# Altium schematic symbol library power_charger.SchLib: 5 symbols
Pins are listed as number, name and electrical type; pins without a type are passive.

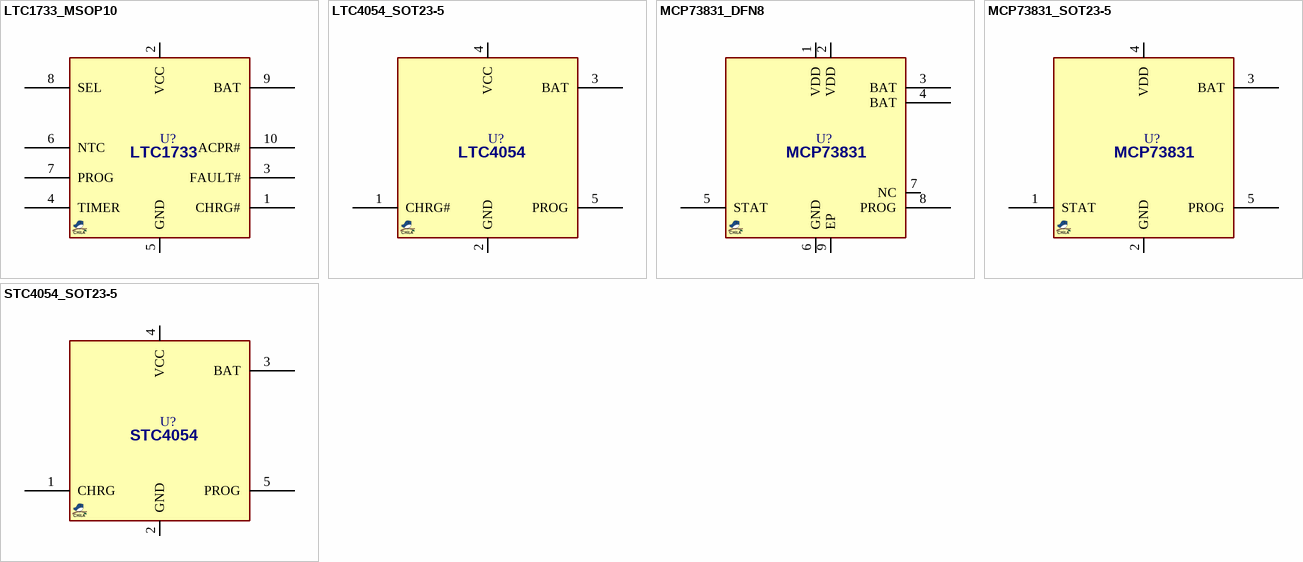
[diagram p0: symbols LTC1733_MSOP10 to STC4054_SOT23-5]

## LTC1733_MSOP10
designator U?, comment LTC1733  (value not drawn)
PWR, CHARGER, Linear, Li-Ion, 1.6A, 4.2v; MANF: ANALOG DEVICE/LINEAR; MANF_P#: LTC1733EMSE; PARAM2: 4.5~6.5Vcc, -40~85oC; PARAM: Li-Ion, 1.6A, 4.2v; PRICE: 7t@ECA; VALUE: LTC1733
footprint SOG50_10 (MSSOP10, 3X3mm 0.5mm pitch, DGS, MSOP10, 10uSOP/usop10 (Dallas), MO-187BA(JEDEC))
pins: 1 CHRG# (power), 2 VCC (power), 3 FAULT# (power), 4 TIMER (power), 5 GND (power), 6 NTC (power), 7 PROG (power), 8 SEL (power), 9 BAT (power), 10 ACPR# (power)

## LTC4054_SOT23-5
designator U?, comment LTC4054  (value not drawn)
PWR, CHARGER, Linear, Li-Ion, 0.8A, 4.2v; MANF: ANALOG DEVICE/LINEAR; MANF_P#: LTC4054ES5-4.2; PARAM2: 4.2~6.5Vcc, -40~85oC; PARAM: Li-Ion, 0.8A, 4.2v; PRICE: 5t@JAVAN; VALUE: LTC4054
footprint SOT23_5 (SOT-23-5, SOT25, SOT-25, DBV(R-PDSO-G5), SOT753, TSOT23-5, SC-74A, SOT23-5, S5-T (LINEAR), MO-178AA, MO-193AB(JEDEC), MF05A (NS), TSOP-5(ON), UJ-5 (AD), 0.95mm pitch 3X1.5mm)
pins: 1 CHRG# (power), 2 GND (power), 3 BAT (power), 4 VCC (power), 5 PROG (power)

## MCP73831_DFN8
designator U?, comment MCP73831  (value not drawn)
PWR, CHARGER, Linear, Li-Ion/Li-Po, 0.5A, 4.2v; MANF: MICROCHIP; MANF_P#: MCP73831T-2ACI/MC; PARAM2: 3.75~6Vcc, -40~85oC; PARAM: Li-Ion/Li-Po, 0.5A, 4.2v; PRICE: 0.6$@MOUSER; VALUE: MCP73831
footprint SON50_8T_2X3 (TDFN, UFDFPN8, Pitch: 0.5mm 2x3x0.8mm with Thermal pad)
pins: 1 VDD (power), 2 VDD (power), 3 BAT (power), 4 BAT (power), 5 STAT (power), 6 GND (power), 7 NC (power), 8 PROG (power), 9 EP (power)

## MCP73831_SOT23-5
designator U?, comment MCP73831  (value not drawn)
PWR, CHARGER, Linear, Li-Ion/Li-Po, 0.5A, 4.2v; MANF: MICROCHIP; MANF_P#: MCP73831T-2ACI/OT; PARAM2: 3.75~6Vcc, -40~85oC; PARAM: Li-Ion/Li-Po, 0.5A, 4.2v; PRICE: 4t@LION; VALUE: MCP73831
footprint SOT23_5 (SOT-23-5, SOT25, SOT-25, DBV(R-PDSO-G5), SOT753, TSOT23-5, SC-74A, SOT23-5, S5-T (LINEAR), MO-178AA, MO-193AB(JEDEC), MF05A (NS), TSOP-5(ON), UJ-5 (AD), 0.95mm pitch 3X1.5mm)
pins: 1 STAT (power), 2 GND (power), 3 BAT (power), 4 VDD (power), 5 PROG (power)

## STC4054_SOT23-5
designator U?, comment STC4054  (value not drawn)
PWR, CHARGER, Linear, Li-Ion, 0.8A, 4.2v; MANF: ST; MANF_P#: STC4054GR; PARAM2: 4.2~6.5Vcc, -40~85oC; PARAM: Li-Ion, 0.8A, 4.2v; PRICE: 1.5$; VALUE: STC4054
footprint SOT23_5 (SOT-23-5, SOT25, SOT-25, DBV(R-PDSO-G5), SOT753, TSOT23-5, SC-74A, SOT23-5, S5-T (LINEAR), MO-178AA, MO-193AB(JEDEC), MF05A (NS), TSOP-5(ON), UJ-5 (AD), 0.95mm pitch 3X1.5mm)
pins: 1 CHRG (power), 2 GND (power), 3 BAT (power), 4 VCC (power), 5 PROG (power)